# Altium footprint library Cap_Panasonic_Electronic_Components_EEU-FC1V221L_eec_MFG.PcbLib: 1 footprints
Each footprint in its own frame and in the unit in brackets; x right, y up, seen from the top. Pads: shape width x height; smd on the part's side, far side on the other; paste and mask are expansions set on the pad; w line width, h text height; cw(c..) or ccw(c..) is an arc to the next point about the centre after c.
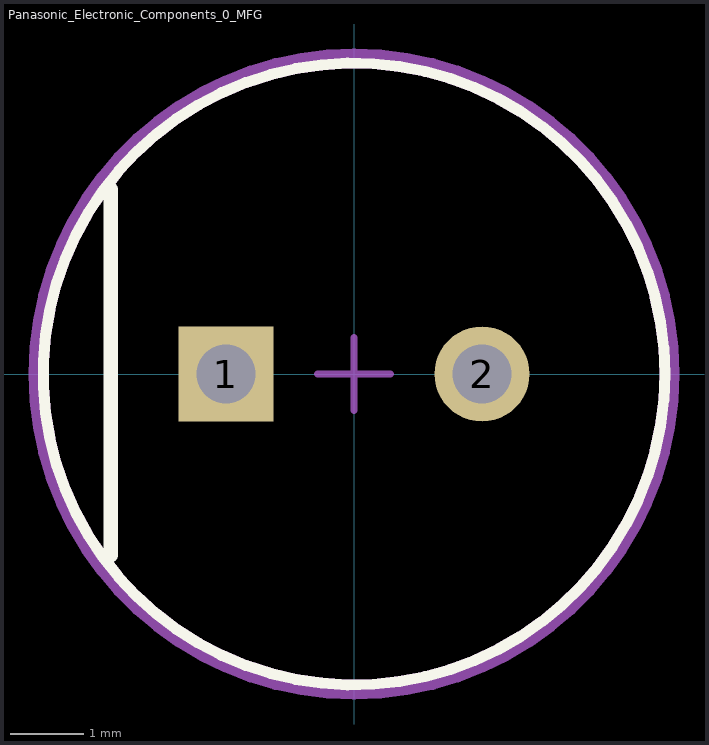
[diagram p0: the footprint, top view; thin cyan lines are the x and y axes]

## Panasonic_Electronic_Components_0_MFG [mm]
pads (2):
  rect 1.3x1.3 hole 0.8 paste-1000 mask+0: 1(-1.75,0)
  round 1.3 hole 0.8 paste-1000 mask+0: 2(1.75,0)
Top Overlay:
  circle w0.15: c0,0 r4.25
  lines w0.2: -3.325,-2.475 -3.325,2.525
Mechanical 10:
  text ".Designator" at 0,0 h1
Mechanical 12:
  circle w0.15: c0,0 r4.25
Mechanical 15:
  lines w0.1: -0.5,0 0.5,0 ; 0,-0.5 0,0.5
  lines w0.2: -4.35,0 cw(c0,0) 4.35,0 cw(c0,0) -4.35,0 ; -4.35,0 -4.35,0
3D body "Cap_Panasonic_Electronic_Components_EEU-FC1V221L_eec.STEP": height 0.25, standoff 0, extent -4.35,-4.35 4.35,4.35